# Altium schematic symbol library comm-rfb.SchLib: 22 symbols
Pins are listed as number, name and electrical type; pins without a type are passive.

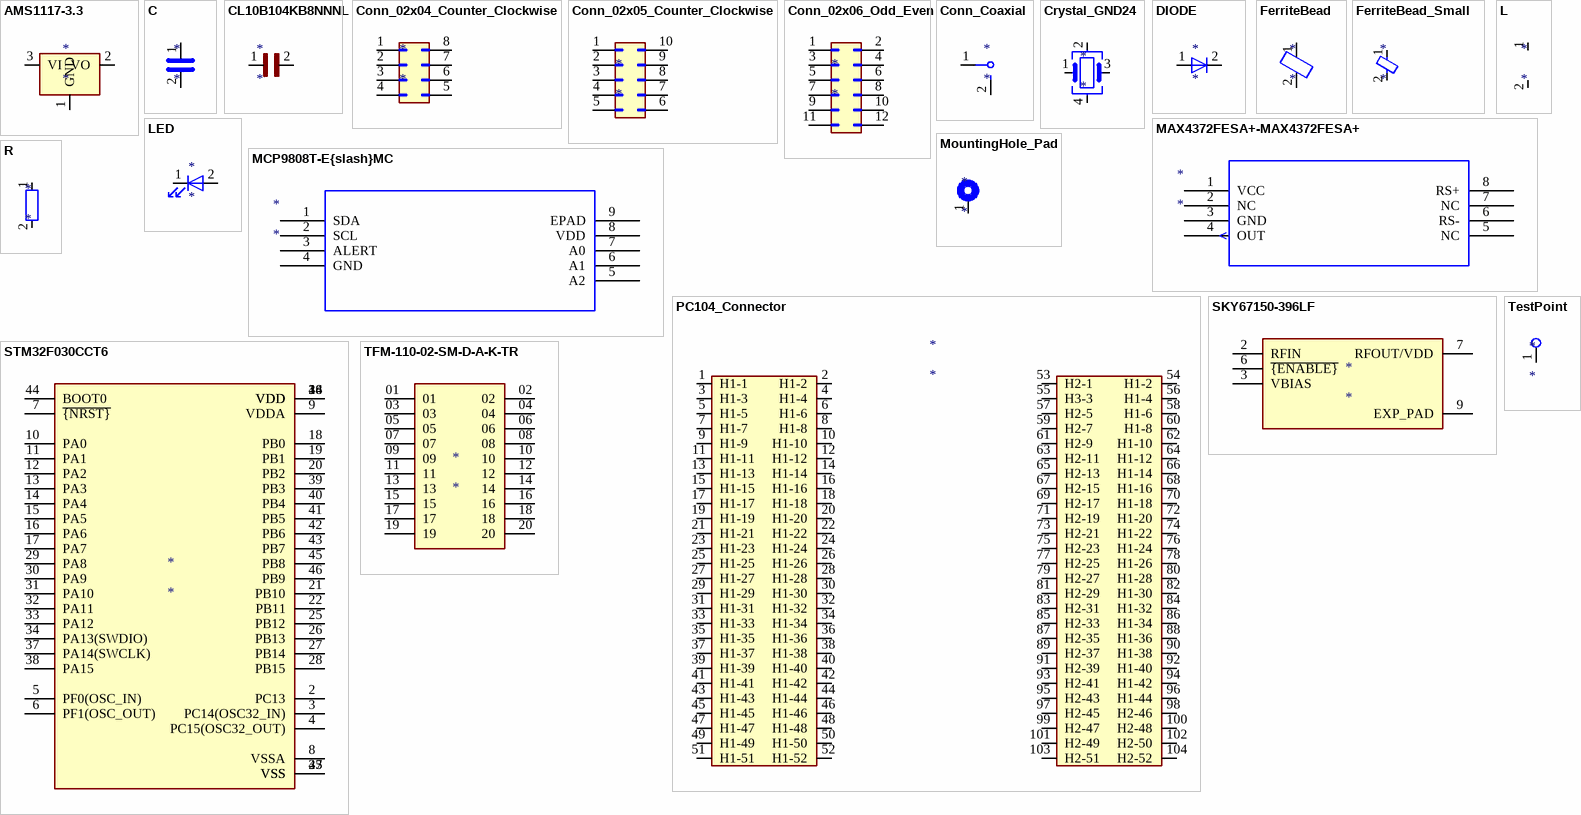
[diagram p0: symbols AMS1117-3.3 to TFM-110-02-SM-D-A-K-TR]

## AMS1117-3.3
designator *
pins: 1 GND, 2 VO, 3 VI

## C
designator *
pins: 1, 2

## CL10B104KB8NNNL
designator *
pins: 1, 2

## Conn_02x04_Counter_Clockwise
designator *
pins: 1 Pin_1, 2 Pin_2, 3 Pin_3, 4 Pin_4, 5 Pin_5, 6 Pin_6, 7 Pin_7, 8 Pin_8

## Conn_02x05_Counter_Clockwise
designator *
pins: 1 Pin_1, 2 Pin_2, 3 Pin_3, 4 Pin_4, 5 Pin_5, 6 Pin_6, 7 Pin_7, 8 Pin_8, 9 Pin_9, 10 Pin_10

## Conn_02x06_Odd_Even
designator *
pins: 1 Pin_1, 2 Pin_2, 3 Pin_3, 4 Pin_4, 5 Pin_5, 6 Pin_6, 7 Pin_7, 8 Pin_8, 9 Pin_9, 10 Pin_10, 11 Pin_11, 12 Pin_12

## Conn_Coaxial
designator *
pins: 1 In, 2 Ext

## Crystal_GND24
designator *
pins: 1, 2, 3, 4

## DIODE
designator *
pins: 1 A, 2 K

## FerriteBead
designator *
pins: 1, 2

## FerriteBead_Small
designator *
pins: 1, 2

## L
designator *
pins: 1, 2

## LED
designator *
pins: 1 K, 2 A

## MAX4372FESA+-MAX4372FESA+
designator *
pins: 1 VCC, 2 NC, 3 GND, 4 OUT, 5 NC, 6 RS-, 7 NC, 8 RS+

## MCP9808T-E{slash}MC
designator *
pins: 1 SDA, 2 SCL, 3 ALERT, 4 GND, 5 A2, 6 A1, 7 A0, 8 VDD, 9 EPAD

## MountingHole_Pad
designator *
pins: 1

## PC104_Connector
designator *
pins: 1 H1-1, 2 H1-2, 3 H1-3, 4 H1-4, 5 H1-5, 6 H1-6, 7 H1-7, 8 H1-8, 9 H1-9, 10 H1-10, 11 H1-11, 12 H1-12, 13 H1-13, 14 H1-14, 15 H1-15, 16 H1-16, 17 H1-17, 18 H1-18, 19 H1-19, 20 H1-20, 21 H1-21, 22 H1-22, 23 H1-23, 24 H1-24, 25 H1-25, 26 H1-26, 27 H1-27, 28 H1-28, 29 H1-29, 30 H1-30, 31 H1-31, 32 H1-32, 33 H1-33, 34 H1-34, 35 H1-35, 36 H1-36, 37 H1-37, 38 H1-38, 39 H1-39, 40 H1-40, 41 H1-41, 42 H1-42, 43 H1-43, 44 H1-44, 45 H1-45, 46 H1-46, 47 H1-47, 48 H1-48, 49 H1-49, 50 H1-50, 51 H1-51, 52 H1-52, 53 H2-1, 54 H1-2, 55 H3-3, 56 H1-4, 57 H2-5, 58 H1-6, 59 H2-7, 60 H1-8, 61 H2-9, 62 H1-10, 63 H2-11, 64 H1-12, 65 H2-13, 66 H1-14, 67 H2-15, 68 H1-16, 69 H2-17, 70 H1-18, 71 H2-19, 72 H1-20, 73 H2-21, 74 H1-22, 75 H2-23, 76 H1-24, 77 H2-25, 78 H1-26, 79 H2-27, 80 H1-28, 81 H2-29, 82 H1-30, 83 H2-31, 84 H1-32, 85 H2-33, 86 H1-34, 87 H2-35, 88 H1-36, 89 H2-37, 90 H1-38, 91 H2-39, 92 H1-40, 93 H2-41, 94 H1-42, 95 H2-43, 96 H1-44, 97 H2-45, 98 H2-46, 99 H2-47, 100 H2-48, 101 H2-49, 102 H2-50, 103 H2-51, 104 H2-52

## R
designator *
pins: 1, 2

## SKY67150-396LF
designator *
pins: 2 RFIN, 3 VBIAS, 6 ~{{ENABLE}}, 7 RFOUT/VDD, 9 EXP_PAD

## STM32F030CCT6
designator *
pins: 1 VDD, 2 PC13, 3 PC14(OSC32_IN), 4 PC15(OSC32_OUT), 5 PF0(OSC_IN), 6 PF1(OSC_OUT), 7 ~{{NRST}}, 8 VSSA, 9 VDDA, 10 PA0, 11 PA1, 12 PA2, 13 PA3, 14 PA4, 15 PA5, 16 PA6, 17 PA7, 18 PB0, 19 PB1, 20 PB2, 21 PB10, 22 PB11, 23 VSS, 24 VDD, 25 PB12, 26 PB13, 27 PB14, 28 PB15, 29 PA8, 30 PA9, 31 PA10, 32 PA11, 33 PA12, 34 PA13(SWDIO), 35 VSS, 36 VDD, 37 PA14(SWCLK), 38 PA15, 39 PB3, 40 PB4, 41 PB5, 42 PB6, 43 PB7, 44 BOOT0, 45 PB8, 46 PB9, 47 VSS, 48 VDD

## TestPoint
designator *
pins: 1

## TFM-110-02-SM-D-A-K-TR
designator *
pins: 01, 02, 03, 04, 05, 06, 07, 08, 09, 10, 11, 12, 13, 14, 15, 16, 17, 18, 19, 20